# Altium schematic symbol library NTC_2Pin.Schlib: 1 symbol
Pins are listed as number, name and electrical type; pins without a type are passive.

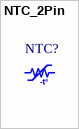
[diagram p0: symbol NTC_2Pin]

## NTC_2Pin
designator NTC?
2Pin NTC Thermistors
pins: 1, 2
text: -t°